# EAGLE library part AN5278 (library Audio-Power-amlifier V.2.0)
The AN5278 is a monolithic integrated circuit designed for 4.8 W ´ 1 channel OTL (18 V, 8 W) output audio power amplifier suitable for TV application.
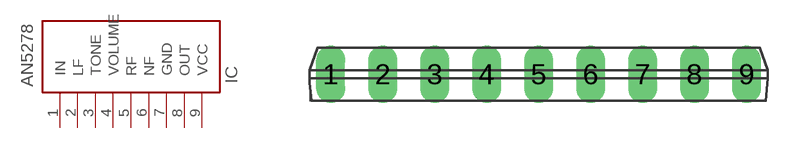
[diagram p142: symbol with the pads of HSIP09-P-0000-2,54; footprint HSIP09-P-0000-2,54]

Designator prefix IC

## AN5278  [HSIP09-P-0000-2,54]
1  IN  in
2  LF  in
3  TONE  in
4  VOLUME  in
5  RF  in
6  NF
7  GND  pwr
8  OUT  out
9  VCC  pwr

## Footprint HSIP09-P-0000-2,54 (pad centres in mm)
drill 0.9 long: 1 -10.16,0; 2 -7.62,0; 3 -5.08,0; 4 -2.54,0; 5 0,0; 6 2.54,0; 7 5.08,0; 8 7.62,0; 9 10.16,0